# Altium schematic symbol library SCH - MCU - STM32 - ST MICROELECTRONICS STM32H7B3NIHX TFBGA216.SchLib: 1 symbol
Pins are listed as number, name and electrical type; pins without a type are passive.

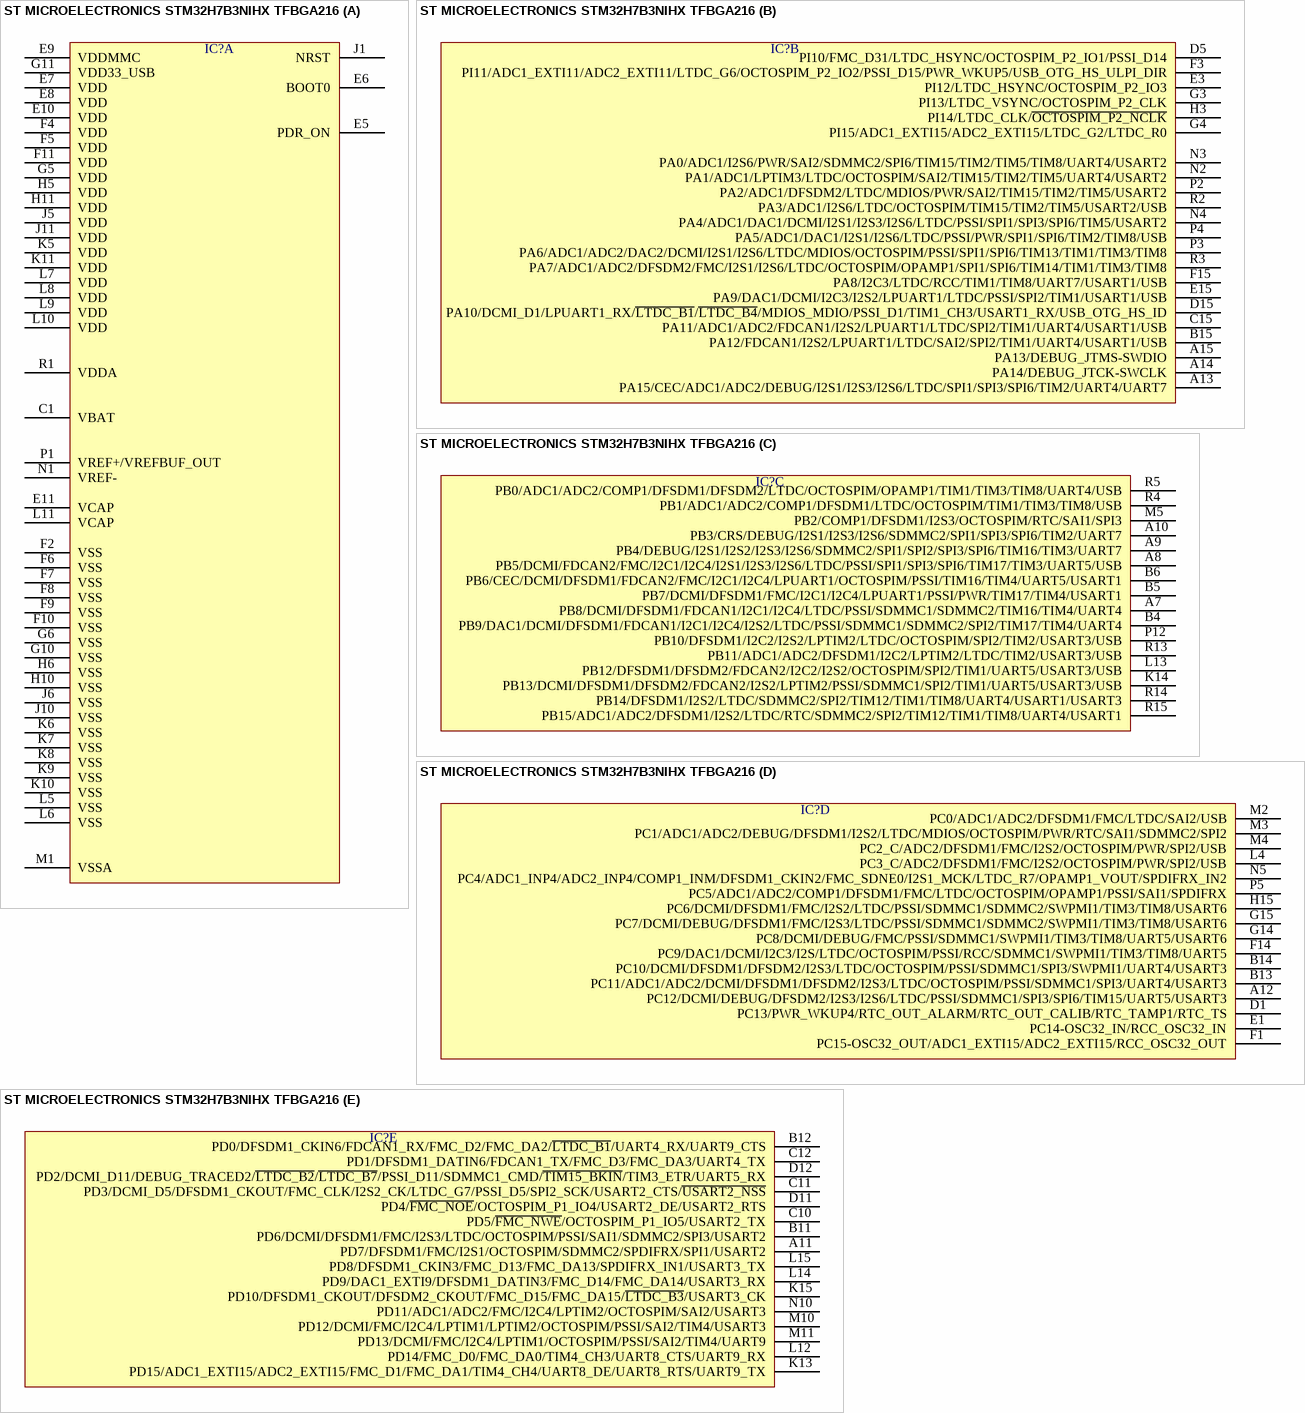
[diagram p0: symbol ST MICROELECTRONICS STM32H7B3NIHX TFBGA216]

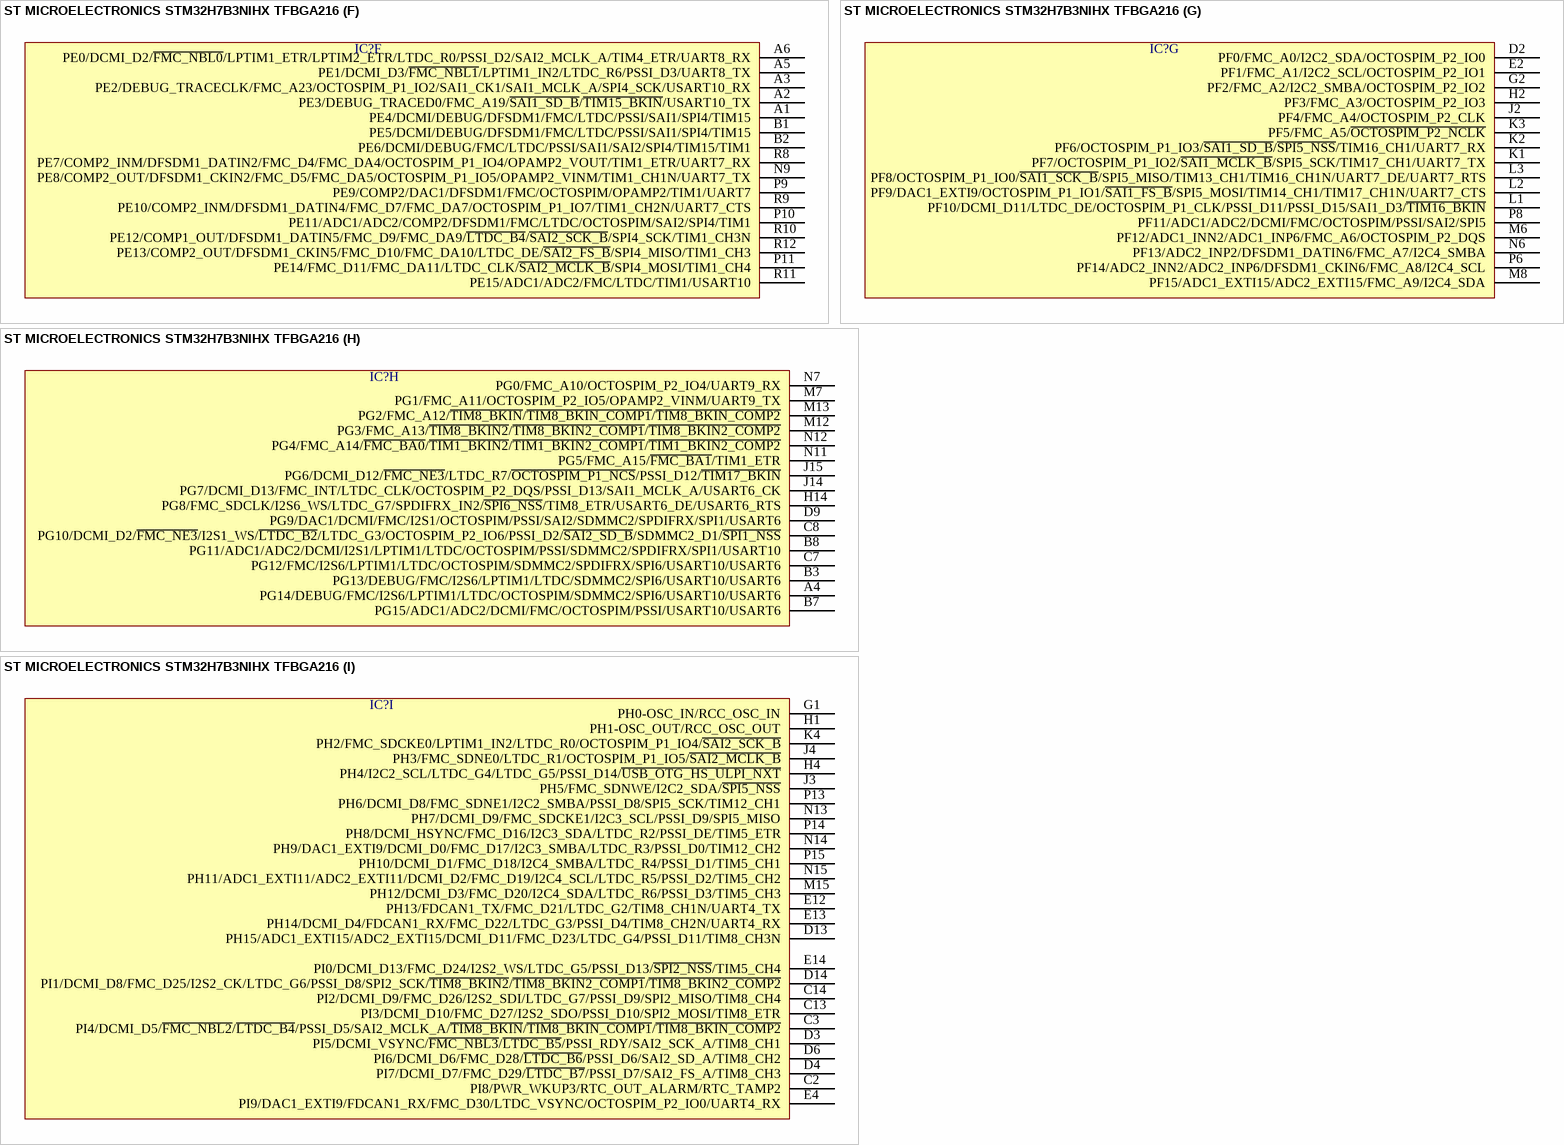
[diagram p1: symbol ST MICROELECTRONICS STM32H7B3NIHX TFBGA216]

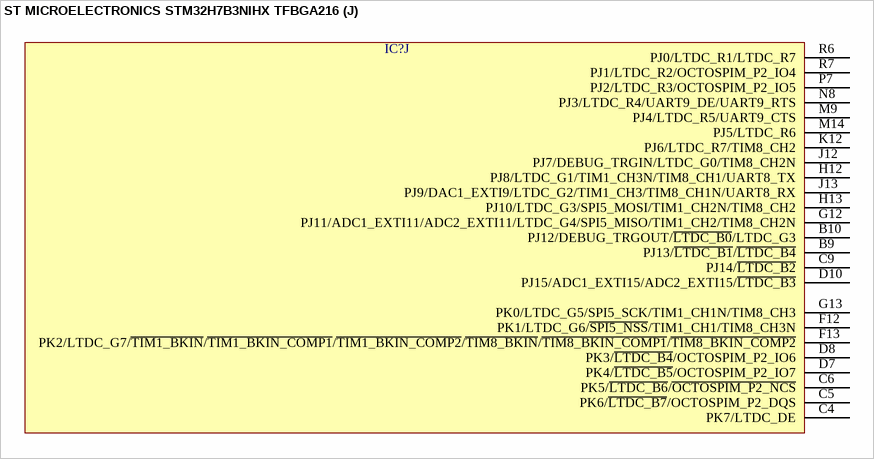
[diagram p2: symbol ST MICROELECTRONICS STM32H7B3NIHX TFBGA216]

## ST MICROELECTRONICS STM32H7B3NIHX TFBGA216
designator IC?  (value not drawn)
part A pins: C1 VBAT, E5 PDR_ON, E6 BOOT0, E7 VDD, E8 VDD, E9 VDDMMC, E10 VDD, E11 VCAP, F2 VSS, F4 VDD, F5 VDD, F6 VSS, F7 VSS, F8 VSS, F9 VSS, F10 VSS, F11 VDD, G5 VDD, G6 VSS, G10 VSS, G11 VDD33_USB, H5 VDD, H6 VSS, H10 VSS, H11 VDD, J1 NRST, J5 VDD, J6 VSS, J10 VSS, J11 VDD, K5 VDD, K6 VSS, K7 VSS, K8 VSS, K9 VSS, K10 VSS, K11 VDD, L5 VSS, L6 VSS, L7 VDD, L8 VDD, L9 VDD, L10 VDD, L11 VCAP, M1 VSSA, N1 VREF-, P1 VREF+/VREFBUF_OUT, R1 VDDA
part B pins: A13 PA15/CEC/ADC1/ADC2/DEBUG/I2S1/I2S3/I2S6/LTDC/SPI1/SPI3/SPI6/TIM2/UART4/UART7, A14 PA14/DEBUG_JTCK-SWCLK, A15 PA13/DEBUG_JTMS-SWDIO, B15 PA12/FDCAN1/I2S2/LPUART1/LTDC/SAI2/SPI2/TIM1/UART4/USART1/USB, C15 PA11/ADC1/ADC2/FDCAN1/I2S2/LPUART1/LTDC/SPI2/TIM1/UART4/USART1/USB, D5 PI10/FMC_D31/LTDC_HSYNC/OCTOSPIM_P2_IO1/PSSI_D14, D15 PA10/DCMI_D1/LPUART1_RX/~{LTDC_B1}/~{LTDC_B4}/MDIOS_MDIO/PSSI_D1/TIM1_CH3/USART1_RX/USB_OTG_HS_ID, E3 PI12/LTDC_HSYNC/OCTOSPIM_P2_IO3, E15 PA9/DAC1/DCMI/I2C3/I2S2/LPUART1/LTDC/PSSI/SPI2/TIM1/USART1/USB, F3 PI11/ADC1_EXTI11/ADC2_EXTI11/LTDC_G6/OCTOSPIM_P2_IO2/PSSI_D15/PWR_WKUP5/USB_OTG_HS_ULPI_DIR, F15 PA8/I2C3/LTDC/RCC/TIM1/TIM8/UART7/USART1/USB, G3 PI13/LTDC_VSYNC/OCTOSPIM_P2_CLK, G4 PI15/ADC1_EXTI15/ADC2_EXTI15/LTDC_G2/LTDC_R0, H3 PI14/LTDC_CLK/~{OCTOSPIM_P2_NCLK}, N2 PA1/ADC1/LPTIM3/LTDC/OCTOSPIM/SAI2/TIM15/TIM2/TIM5/UART4/USART2, N3 PA0/ADC1/I2S6/PWR/SAI2/SDMMC2/SPI6/TIM15/TIM2/TIM5/TIM8/UART4/USART2, N4 PA4/ADC1/DAC1/DCMI/I2S1/I2S3/I2S6/LTDC/PSSI/SPI1/SPI3/SPI6/TIM5/USART2, P2 PA2/ADC1/DFSDM2/LTDC/MDIOS/PWR/SAI2/TIM15/TIM2/TIM5/USART2, P3 PA6/ADC1/ADC2/DAC2/DCMI/I2S1/I2S6/LTDC/MDIOS/OCTOSPIM/PSSI/SPI1/SPI6/TIM13/TIM1/TIM3/TIM8, P4 PA5/ADC1/DAC1/I2S1/I2S6/LTDC/PSSI/PWR/SPI1/SPI6/TIM2/TIM8/USB, R2 PA3/ADC1/I2S6/LTDC/OCTOSPIM/TIM15/TIM2/TIM5/USART2/USB, R3 PA7/ADC1/ADC2/DFSDM2/FMC/I2S1/I2S6/LTDC/OCTOSPIM/OPAMP1/SPI1/SPI6/TIM14/TIM1/TIM3/TIM8
part C pins: A7 PB8/DCMI/DFSDM1/FDCAN1/I2C1/I2C4/LTDC/PSSI/SDMMC1/SDMMC2/TIM16/TIM4/UART4, A8 PB5/DCMI/FDCAN2/FMC/I2C1/I2C4/I2S1/I2S3/I2S6/LTDC/PSSI/SPI1/SPI3/SPI6/TIM17/TIM3/UART5/USB, A9 PB4/DEBUG/I2S1/I2S2/I2S3/I2S6/SDMMC2/SPI1/SPI2/SPI3/SPI6/TIM16/TIM3/UART7, A10 PB3/CRS/DEBUG/I2S1/I2S3/I2S6/SDMMC2/SPI1/SPI3/SPI6/TIM2/UART7, B4 PB9/DAC1/DCMI/DFSDM1/FDCAN1/I2C1/I2C4/I2S2/LTDC/PSSI/SDMMC1/SDMMC2/SPI2/TIM17/TIM4/UART4, B5 PB7/DCMI/DFSDM1/FMC/I2C1/I2C4/LPUART1/PSSI/PWR/TIM17/TIM4/USART1, B6 PB6/CEC/DCMI/DFSDM1/FDCAN2/FMC/I2C1/I2C4/LPUART1/OCTOSPIM/PSSI/TIM16/TIM4/UART5/USART1, K14 PB13/DCMI/DFSDM1/DFSDM2/FDCAN2/I2S2/LPTIM2/PSSI/SDMMC1/SPI2/TIM1/UART5/USART3/USB, L13 PB12/DFSDM1/DFSDM2/FDCAN2/I2C2/I2S2/OCTOSPIM/SPI2/TIM1/UART5/USART3/USB, M5 PB2/COMP1/DFSDM1/I2S3/OCTOSPIM/RTC/SAI1/SPI3, P12 PB10/DFSDM1/I2C2/I2S2/LPTIM2/LTDC/OCTOSPIM/SPI2/TIM2/USART3/USB, R4 PB1/ADC1/ADC2/COMP1/DFSDM1/LTDC/OCTOSPIM/TIM1/TIM3/TIM8/USB, R5 PB0/ADC1/ADC2/COMP1/DFSDM1/DFSDM2/LTDC/OCTOSPIM/OPAMP1/TIM1/TIM3/TIM8/UART4/USB, R13 PB11/ADC1/ADC2/DFSDM1/I2C2/LPTIM2/LTDC/TIM2/USART3/USB, R14 PB14/DFSDM1/I2S2/LTDC/SDMMC2/SPI2/TIM12/TIM1/TIM8/UART4/USART1/USART3, R15 PB15/ADC1/ADC2/DFSDM1/I2S2/LTDC/RTC/SDMMC2/SPI2/TIM12/TIM1/TIM8/UART4/USART1
part D pins: A12 PC12/DCMI/DEBUG/DFSDM2/I2S3/I2S6/LTDC/PSSI/SDMMC1/SPI3/SPI6/TIM15/UART5/USART3, B13 PC11/ADC1/ADC2/DCMI/DFSDM1/DFSDM2/I2S3/LTDC/OCTOSPIM/PSSI/SDMMC1/SPI3/UART4/USART3, B14 PC10/DCMI/DFSDM1/DFSDM2/I2S3/LTDC/OCTOSPIM/PSSI/SDMMC1/SPI3/SWPMI1/UART4/USART3, D1 PC13/PWR_WKUP4/RTC_OUT_ALARM/RTC_OUT_CALIB/RTC_TAMP1/RTC_TS, E1 PC14-OSC32_IN/RCC_OSC32_IN, F1 PC15-OSC32_OUT/ADC1_EXTI15/ADC2_EXTI15/RCC_OSC32_OUT, F14 PC9/DAC1/DCMI/I2C3/I2S/LTDC/OCTOSPIM/PSSI/RCC/SDMMC1/SWPMI1/TIM3/TIM8/UART5, G14 PC8/DCMI/DEBUG/FMC/PSSI/SDMMC1/SWPMI1/TIM3/TIM8/UART5/USART6, G15 PC7/DCMI/DEBUG/DFSDM1/FMC/I2S3/LTDC/PSSI/SDMMC1/SDMMC2/SWPMI1/TIM3/TIM8/USART6, H15 PC6/DCMI/DFSDM1/FMC/I2S2/LTDC/PSSI/SDMMC1/SDMMC2/SWPMI1/TIM3/TIM8/USART6, L4 PC3_C/ADC2/DFSDM1/FMC/I2S2/OCTOSPIM/PWR/SPI2/USB, M2 PC0/ADC1/ADC2/DFSDM1/FMC/LTDC/SAI2/USB, M3 PC1/ADC1/ADC2/DEBUG/DFSDM1/I2S2/LTDC/MDIOS/OCTOSPIM/PWR/RTC/SAI1/SDMMC2/SPI2, M4 PC2_C/ADC2/DFSDM1/FMC/I2S2/OCTOSPIM/PWR/SPI2/USB, N5 PC4/ADC1_INP4/ADC2_INP4/COMP1_INM/DFSDM1_CKIN2/FMC_SDNE0/I2S1_MCK/LTDC_R7/OPAMP1_VOUT/SPDIFRX_IN2, P5 PC5/ADC1/ADC2/COMP1/DFSDM1/FMC/LTDC/OCTOSPIM/OPAMP1/PSSI/SAI1/SPDIFRX
part E pins: A11 PD7/DFSDM1/FMC/I2S1/OCTOSPIM/SDMMC2/SPDIFRX/SPI1/USART2, B11 PD6/DCMI/DFSDM1/FMC/I2S3/LTDC/OCTOSPIM/PSSI/SAI1/SDMMC2/SPI3/USART2, B12 PD0/DFSDM1_CKIN6/FDCAN1_RX/FMC_D2/FMC_DA2/~{LTDC_B1}/UART4_RX/UART9_CTS, C10 PD5/~{FMC_NWE}/OCTOSPIM_P1_IO5/USART2_TX, C11 PD3/DCMI_D5/DFSDM1_CKOUT/FMC_CLK/I2S2_CK/LTDC_G7/PSSI_D5/SPI2_SCK/USART2_CTS/~{USART2_NSS}, C12 PD1/DFSDM1_DATIN6/FDCAN1_TX/FMC_D3/FMC_DA3/UART4_TX, D11 PD4/~{FMC_NOE}/OCTOSPIM_P1_IO4/USART2_DE/USART2_RTS, D12 PD2/DCMI_D11/DEBUG_TRACED2/~{LTDC_B2}/~{LTDC_B7}/PSSI_D11/SDMMC1_CMD/~{TIM15_BKIN}/TIM3_ETR/UART5_RX, K13 PD15/ADC1_EXTI15/ADC2_EXTI15/FMC_D1/FMC_DA1/TIM4_CH4/UART8_DE/UART8_RTS/UART9_TX, K15 PD10/DFSDM1_CKOUT/DFSDM2_CKOUT/FMC_D15/FMC_DA15/~{LTDC_B3}/USART3_CK, L12 PD14/FMC_D0/FMC_DA0/TIM4_CH3/UART8_CTS/UART9_RX, L14 PD9/DAC1_EXTI9/DFSDM1_DATIN3/FMC_D14/FMC_DA14/USART3_RX, L15 PD8/DFSDM1_CKIN3/FMC_D13/FMC_DA13/SPDIFRX_IN1/USART3_TX, M10 PD12/DCMI/FMC/I2C4/LPTIM1/LPTIM2/OCTOSPIM/PSSI/SAI2/TIM4/USART3, M11 PD13/DCMI/FMC/I2C4/LPTIM1/OCTOSPIM/PSSI/SAI2/TIM4/UART9, N10 PD11/ADC1/ADC2/FMC/I2C4/LPTIM2/OCTOSPIM/SAI2/USART3
part F pins: A1 PE4/DCMI/DEBUG/DFSDM1/FMC/LTDC/PSSI/SAI1/SPI4/TIM15, A2 PE3/DEBUG_TRACED0/FMC_A19/~{SAI1_SD_B}/~{TIM15_BKIN}/USART10_TX, A3 PE2/DEBUG_TRACECLK/FMC_A23/OCTOSPIM_P1_IO2/SAI1_CK1/SAI1_MCLK_A/SPI4_SCK/USART10_RX, A5 PE1/DCMI_D3/~{FMC_NBL1}/LPTIM1_IN2/LTDC_R6/PSSI_D3/UART8_TX, A6 PE0/DCMI_D2/~{FMC_NBL0}/LPTIM1_ETR/LPTIM2_ETR/LTDC_R0/PSSI_D2/SAI2_MCLK_A/TIM4_ETR/UART8_RX, B1 PE5/DCMI/DEBUG/DFSDM1/FMC/LTDC/PSSI/SAI1/SPI4/TIM15, B2 PE6/DCMI/DEBUG/FMC/LTDC/PSSI/SAI1/SAI2/SPI4/TIM15/TIM1, N9 PE8/COMP2_OUT/DFSDM1_CKIN2/FMC_D5/FMC_DA5/OCTOSPIM_P1_IO5/OPAMP2_VINM/TIM1_CH1N/UART7_TX, P9 PE9/COMP2/DAC1/DFSDM1/FMC/OCTOSPIM/OPAMP2/TIM1/UART7, P10 PE11/ADC1/ADC2/COMP2/DFSDM1/FMC/LTDC/OCTOSPIM/SAI2/SPI4/TIM1, P11 PE14/FMC_D11/FMC_DA11/LTDC_CLK/~{SAI2_MCLK_B}/SPI4_MOSI/TIM1_CH4, R8 PE7/COMP2_INM/DFSDM1_DATIN2/FMC_D4/FMC_DA4/OCTOSPIM_P1_IO4/OPAMP2_VOUT/TIM1_ETR/UART7_RX, R9 PE10/COMP2_INM/DFSDM1_DATIN4/FMC_D7/FMC_DA7/OCTOSPIM_P1_IO7/TIM1_CH2N/UART7_CTS, R10 PE12/COMP1_OUT/DFSDM1_DATIN5/FMC_D9/FMC_DA9/~{LTDC_B4}/~{SAI2_SCK_B}/SPI4_SCK/TIM1_CH3N, R11 PE15/ADC1/ADC2/FMC/LTDC/TIM1/USART10, R12 PE13/COMP2_OUT/DFSDM1_CKIN5/FMC_D10/FMC_DA10/LTDC_DE/~{SAI2_FS_B}/SPI4_MISO/TIM1_CH3
part G pins: D2 PF0/FMC_A0/I2C2_SDA/OCTOSPIM_P2_IO0, E2 PF1/FMC_A1/I2C2_SCL/OCTOSPIM_P2_IO1, G2 PF2/FMC_A2/I2C2_SMBA/OCTOSPIM_P2_IO2, H2 PF3/FMC_A3/OCTOSPIM_P2_IO3, J2 PF4/FMC_A4/OCTOSPIM_P2_CLK, K1 PF7/OCTOSPIM_P1_IO2/~{SAI1_MCLK_B}/SPI5_SCK/TIM17_CH1/UART7_TX, K2 PF6/OCTOSPIM_P1_IO3/~{SAI1_SD_B}/~{SPI5_NSS}/TIM16_CH1/UART7_RX, K3 PF5/FMC_A5/~{OCTOSPIM_P2_NCLK}, L1 PF10/DCMI_D11/LTDC_DE/OCTOSPIM_P1_CLK/PSSI_D11/PSSI_D15/SAI1_D3/~{TIM16_BKIN}, L2 PF9/DAC1_EXTI9/OCTOSPIM_P1_IO1/~{SAI1_FS_B}/SPI5_MOSI/TIM14_CH1/TIM17_CH1N/UART7_CTS, L3 PF8/OCTOSPIM_P1_IO0/~{SAI1_SCK_B}/SPI5_MISO/TIM13_CH1/TIM16_CH1N/UART7_DE/UART7_RTS, M6 PF12/ADC1_INN2/ADC1_INP6/FMC_A6/OCTOSPIM_P2_DQS, M8 PF15/ADC1_EXTI15/ADC2_EXTI15/FMC_A9/I2C4_SDA, N6 PF13/ADC2_INP2/DFSDM1_DATIN6/FMC_A7/I2C4_SMBA, P6 PF14/ADC2_INN2/ADC2_INP6/DFSDM1_CKIN6/FMC_A8/I2C4_SCL, P8 PF11/ADC1/ADC2/DCMI/FMC/OCTOSPIM/PSSI/SAI2/SPI5
part H pins: A4 PG14/DEBUG/FMC/I2S6/LPTIM1/LTDC/OCTOSPIM/SDMMC2/SPI6/USART10/USART6, B3 PG13/DEBUG/FMC/I2S6/LPTIM1/LTDC/SDMMC2/SPI6/USART10/USART6, B7 PG15/ADC1/ADC2/DCMI/FMC/OCTOSPIM/PSSI/USART10/USART6, B8 PG11/ADC1/ADC2/DCMI/I2S1/LPTIM1/LTDC/OCTOSPIM/PSSI/SDMMC2/SPDIFRX/SPI1/USART10, C7 PG12/FMC/I2S6/LPTIM1/LTDC/OCTOSPIM/SDMMC2/SPDIFRX/SPI6/USART10/USART6, C8 PG10/DCMI_D2/~{FMC_NE3}/I2S1_WS/~{LTDC_B2}/LTDC_G3/OCTOSPIM_P2_IO6/PSSI_D2/~{SAI2_SD_B}/SDMMC2_D1/~{SPI1_NSS}, D9 PG9/DAC1/DCMI/FMC/I2S1/OCTOSPIM/PSSI/SAI2/SDMMC2/SPDIFRX/SPI1/USART6, H14 PG8/FMC_SDCLK/I2S6_WS/LTDC_G7/SPDIFRX_IN2/~{SPI6_NSS}/TIM8_ETR/USART6_DE/USART6_RTS, J14 PG7/DCMI_D13/FMC_INT/LTDC_CLK/OCTOSPIM_P2_DQS/PSSI_D13/SAI1_MCLK_A/USART6_CK, J15 PG6/DCMI_D12/~{FMC_NE3}/LTDC_R7/~{OCTOSPIM_P1_NCS}/PSSI_D12/~{TIM17_BKIN}, M7 PG1/FMC_A11/OCTOSPIM_P2_IO5/OPAMP2_VINM/UART9_TX, M12 PG3/FMC_A13/~{TIM8_BKIN2}/~{TIM8_BKIN2_COMP1}/~{TIM8_BKIN2_COMP2}, M13 PG2/FMC_A12/~{TIM8_BKIN}/~{TIM8_BKIN_COMP1}/~{TIM8_BKIN_COMP2}, N7 PG0/FMC_A10/OCTOSPIM_P2_IO4/UART9_RX, N11 PG5/FMC_A15/~{FMC_BA1}/TIM1_ETR, N12 PG4/FMC_A14/~{FMC_BA0}/~{TIM1_BKIN2}/~{TIM1_BKIN2_COMP1}/~{TIM1_BKIN2_COMP2}
part I pins: C2 PI8/PWR_WKUP3/RTC_OUT_ALARM/RTC_TAMP2, C3 PI4/DCMI_D5/~{FMC_NBL2}/~{LTDC_B4}/PSSI_D5/SAI2_MCLK_A/~{TIM8_BKIN}/~{TIM8_BKIN_COMP1}/~{TIM8_BKIN_COMP2}, C13 PI3/DCMI_D10/FMC_D27/I2S2_SDO/PSSI_D10/SPI2_MOSI/TIM8_ETR, C14 PI2/DCMI_D9/FMC_D26/I2S2_SDI/LTDC_G7/PSSI_D9/SPI2_MISO/TIM8_CH4, D3 PI5/DCMI_VSYNC/~{FMC_NBL3}/~{LTDC_B5}/PSSI_RDY/SAI2_SCK_A/TIM8_CH1, D4 PI7/DCMI_D7/FMC_D29/~{LTDC_B7}/PSSI_D7/SAI2_FS_A/TIM8_CH3, D6 PI6/DCMI_D6/FMC_D28/~{LTDC_B6}/PSSI_D6/SAI2_SD_A/TIM8_CH2, D13 PH15/ADC1_EXTI15/ADC2_EXTI15/DCMI_D11/FMC_D23/LTDC_G4/PSSI_D11/TIM8_CH3N, D14 PI1/DCMI_D8/FMC_D25/I2S2_CK/LTDC_G6/PSSI_D8/SPI2_SCK/~{TIM8_BKIN2}/~{TIM8_BKIN2_COMP1}/~{TIM8_BKIN2_COMP2}, E4 PI9/DAC1_EXTI9/FDCAN1_RX/FMC_D30/LTDC_VSYNC/OCTOSPIM_P2_IO0/UART4_RX, E12 PH13/FDCAN1_TX/FMC_D21/LTDC_G2/TIM8_CH1N/UART4_TX, E13 PH14/DCMI_D4/FDCAN1_RX/FMC_D22/LTDC_G3/PSSI_D4/TIM8_CH2N/UART4_RX, E14 PI0/DCMI_D13/FMC_D24/I2S2_WS/LTDC_G5/PSSI_D13/~{SPI2_NSS}/TIM5_CH4, G1 PH0-OSC_IN/RCC_OSC_IN, H1 PH1-OSC_OUT/RCC_OSC_OUT, H4 PH4/I2C2_SCL/LTDC_G4/LTDC_G5/PSSI_D14/~{USB_OTG_HS_ULPI_NXT}, J3 PH5/FMC_SDNWE/I2C2_SDA/~{SPI5_NSS}, J4 PH3/FMC_SDNE0/LTDC_R1/OCTOSPIM_P1_IO5/~{SAI2_MCLK_B}, K4 PH2/FMC_SDCKE0/LPTIM1_IN2/LTDC_R0/OCTOSPIM_P1_IO4/~{SAI2_SCK_B}, M15 PH12/DCMI_D3/FMC_D20/I2C4_SDA/LTDC_R6/PSSI_D3/TIM5_CH3, N13 PH7/DCMI_D9/FMC_SDCKE1/I2C3_SCL/PSSI_D9/SPI5_MISO, N14 PH9/DAC1_EXTI9/DCMI_D0/FMC_D17/I2C3_SMBA/LTDC_R3/PSSI_D0/TIM12_CH2, N15 PH11/ADC1_EXTI11/ADC2_EXTI11/DCMI_D2/FMC_D19/I2C4_SCL/LTDC_R5/PSSI_D2/TIM5_CH2, P13 PH6/DCMI_D8/FMC_SDNE1/I2C2_SMBA/PSSI_D8/SPI5_SCK/TIM12_CH1, P14 PH8/DCMI_HSYNC/FMC_D16/I2C3_SDA/LTDC_R2/PSSI_DE/TIM5_ETR, P15 PH10/DCMI_D1/FMC_D18/I2C4_SMBA/LTDC_R4/PSSI_D1/TIM5_CH1
part J pins: B9 PJ13/~{LTDC_B1}/~{LTDC_B4}, B10 PJ12/DEBUG_TRGOUT/~{LTDC_B0}/LTDC_G3, C4 PK7/LTDC_DE, C5 PK6/~{LTDC_B7}/OCTOSPIM_P2_DQS, C6 PK5/~{LTDC_B6}/~{OCTOSPIM_P2_NCS}, C9 PJ14/~{LTDC_B2}, D7 PK4/~{LTDC_B5}/OCTOSPIM_P2_IO7, D8 PK3/~{LTDC_B4}/OCTOSPIM_P2_IO6, D10 PJ15/ADC1_EXTI15/ADC2_EXTI15/~{LTDC_B3}, F12 PK1/LTDC_G6/~{SPI5_NSS}/TIM1_CH1/TIM8_CH3N, F13 PK2/LTDC_G7/~{TIM1_BKIN}/~{TIM1_BKIN_COMP1}/~{TIM1_BKIN_COMP2}/~{TIM8_BKIN}/~{TIM8_BKIN_COMP1}/~{TIM8_BKIN_COMP2}, G12 PJ11/ADC1_EXTI11/ADC2_EXTI11/LTDC_G4/SPI5_MISO/TIM1_CH2/TIM8_CH2N, G13 PK0/LTDC_G5/SPI5_SCK/TIM1_CH1N/TIM8_CH3, H12 PJ8/LTDC_G1/TIM1_CH3N/TIM8_CH1/UART8_TX, H13 PJ10/LTDC_G3/SPI5_MOSI/TIM1_CH2N/TIM8_CH2, J12 PJ7/DEBUG_TRGIN/LTDC_G0/TIM8_CH2N, J13 PJ9/DAC1_EXTI9/LTDC_G2/TIM1_CH3/TIM8_CH1N/UART8_RX, K12 PJ6/LTDC_R7/TIM8_CH2, M9 PJ4/LTDC_R5/UART9_CTS, M14 PJ5/LTDC_R6, N8 PJ3/LTDC_R4/UART9_DE/UART9_RTS, P7 PJ2/LTDC_R3/OCTOSPIM_P2_IO5, R6 PJ0/LTDC_R1/LTDC_R7, R7 PJ1/LTDC_R2/OCTOSPIM_P2_IO4